# Altium footprint library LAUNCHXL-F28379D-REV2.0.PcbLib: 47 footprints (part 2 of 3)
Each footprint in its own frame and in the unit in brackets; x right, y up, seen from the top. Pads: shape width x height; smd on the part's side, far side on the other; paste and mask are expansions set on the pad; w line width, h text height; cw(c..) or ccw(c..) is an arc to the next point about the centre after c.
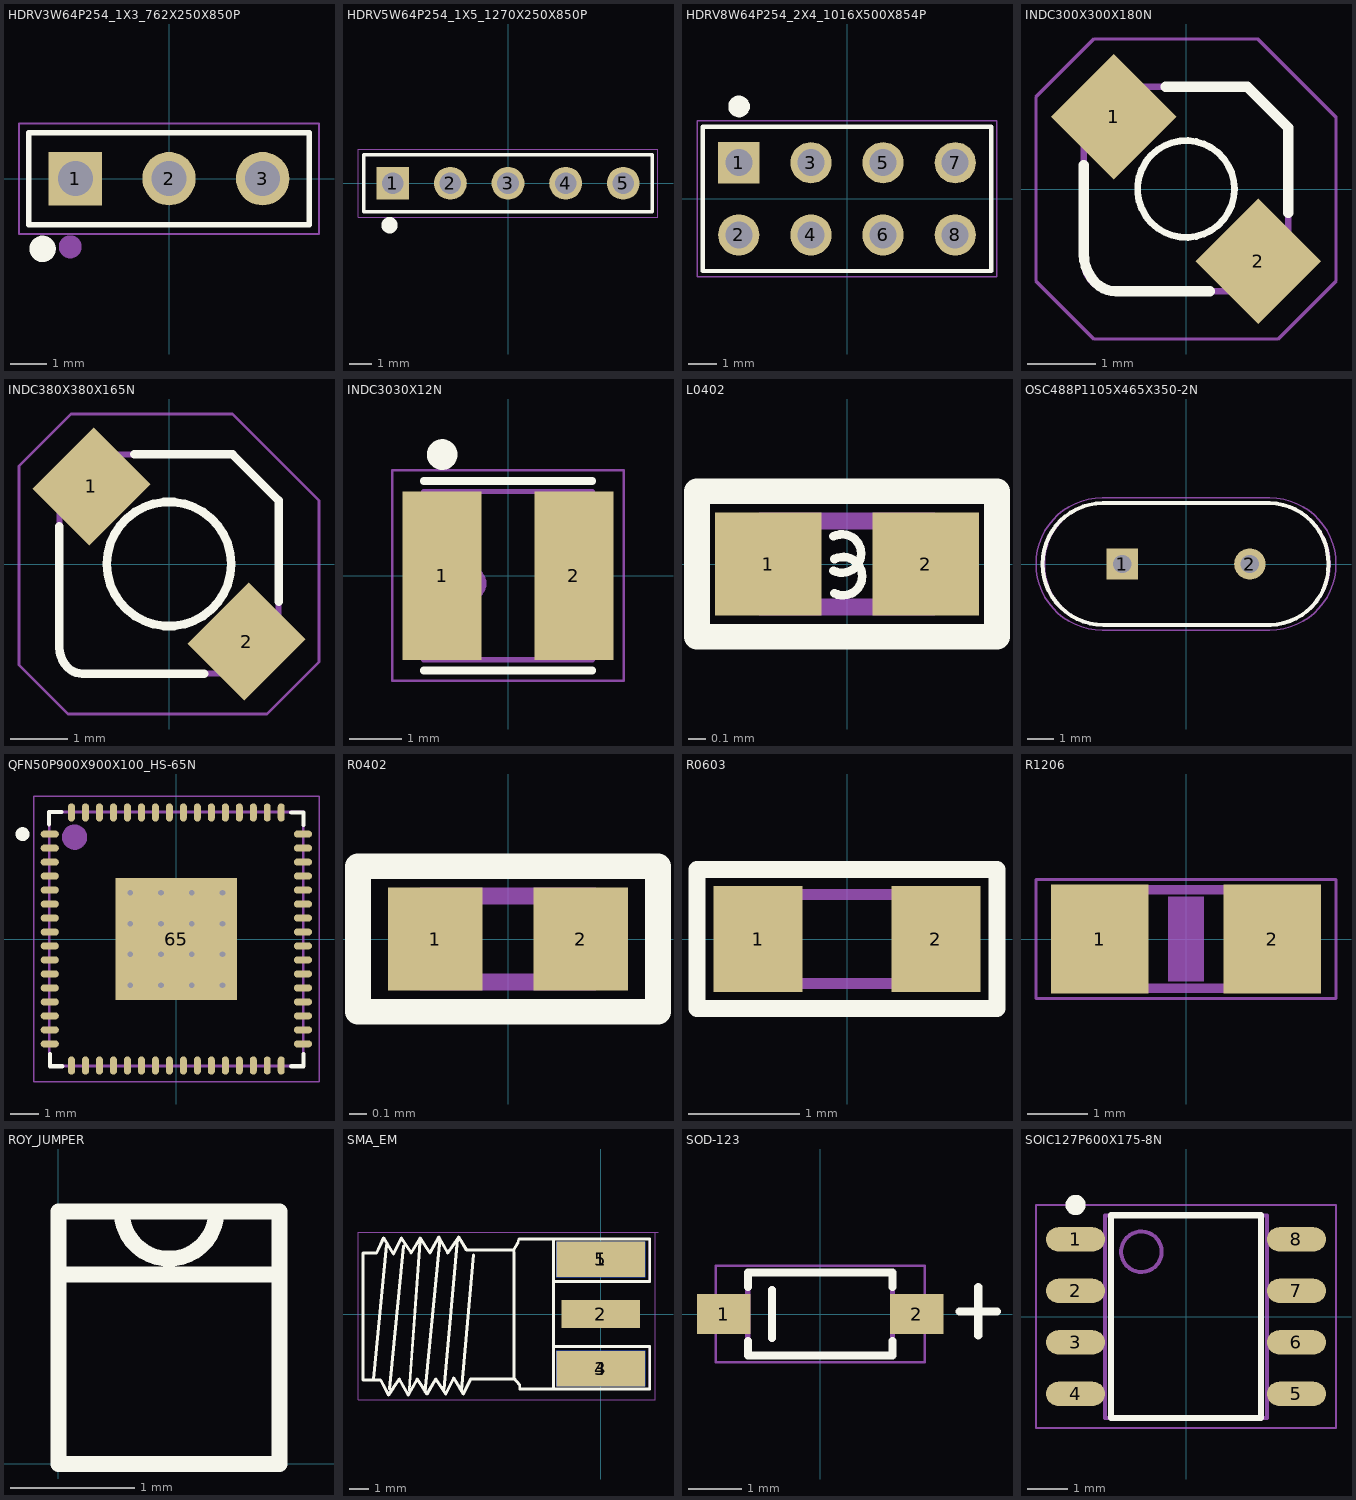
[diagram p1: the footprints below, top view; thin cyan lines are the x and y axes]

## HDRV3W64P254_1X3_762X250X850P [mm]
pads (3):
  rect 1.45x1.45 hole 0.95 mask+0.1: 1(-2.54,0)
  round 1.45 hole 0.95 mask+0.1: 2(0,0) 3(2.54,0)
Top Overlay:
  circle w0.4: c-3.429,-1.905 r0.158
  lines w0.15: 3.8,-1.25 -3.81,-1.25 -3.81,1.25 -3.76,1.25 3.8,1.25 ; 3.81,-1.25 3.81,1.25
Mechanical 14:
  circle w0.4: c-2.68,-1.85 r0.112
  lines w0.1: -3.81,-1.25 3.81,-1.25 3.81,1.25 -3.81,1.25 -3.81,-1.25
Mechanical 16:
  lines w0.05: -4.07,-1.5 4.07,-1.5 4.07,1.5 -3.27,1.5 -4.07,1.5 -4.07,-1.5

## HDRV5W64P254_1X5_1270X250X850P [mm]
pads (5):
  rect 1.45x1.45 hole 0.95 mask+0.1: 1(-5.08,0)
  round 1.45 hole 0.95 mask+0.1: 2(-2.54,0) 3(0,0) 4(2.54,0) 5(5.08,0)
Top Overlay:
  circle w0.4: c-5.22,-1.85 r0.158
  lines w0.15: -6.35,-1.25 -6.35,1.25 -6.3,1.25 6.35,1.25 6.35,-1.25 -6.35,-1.25
Mechanical 14:
  circle w0.4: c-5.22,-1.85 r0.112
  lines w0.1: 6.35,1 6.35,1.25 ; 6.35,1.25 -6.35,1.25 -6.35,-1.25 -1.27,-1.25 6.35,-1.25 6.35,1.25
Mechanical 16:
  lines w0.05: -6.61,-1.5 -6.61,1.5 -5.81,1.5 -1.01,1.5 6.61,1.5 6.61,-1.5 -1.01,-1.5 -6.61,-1.5

## HDRV8W64P254_2X4_1016X500X854P [mm]
pads (8):
  rect 1.45x1.45 hole 0.95 mask+0.1: 1(-3.81,1.27)
  round 1.45 hole 0.95 mask+0.1: 2(-3.81,-1.27) 3(-1.27,1.27) 4(-1.27,-1.27) 5(1.27,1.27) 6(1.27,-1.27) 7(3.81,1.27) 8(3.81,-1.27)
Top Overlay:
  circle w0.4: c-3.8,3.25 r0.18
  lines w0.15: -5.08,-2.54 -5.08,2.54 5.08,2.54 5.08,-2.54 -5.08,-2.54
Mechanical 14:
  circle w0.4: c-3.8,3.25 r0.158
  lines w0.1: -5.08,-2.54 -5.08,2.54 5.08,2.54 5.08,-2.54 -5.08,-2.54
Mechanical 16:
  lines w0.05: -5.28,-2.74 -5.28,2.74 5.28,2.74 5.28,-2.74 -5.28,-2.74

## INDC300X300X180N [mm]
pads (2):
  rect 1.3x1.3 smd rot 135 paste+0 mask+0.1: 1(-1.061,1.061) 2(1.061,-1.061)
Top Overlay:
  circle w0.1: c0,0 r0.711
  lines w0.15: -1.5,0.35 -1.5,-0.95 ccw(c-0.896,-0.95) -1.323,-1.377 ccw(c-1.026,-1.079) -1.026,-1.5 0.35,-1.5 ; -0.3,1.5 0.9,1.5 1.5,0.9 1.5,-0.35
Mechanical 14:
  lines w0.1: -1.5,-1.05 ccw(c-1.05,-1.05) -1.05,-1.5 1.2,-1.5 1.5,-1.2 1.5,0.9 0.9,1.5 -1.25,1.5 -1.5,1.25 -1.5,-1.05
Mechanical 16:
  lines w0.05: -2.2,-1.35 -1.35,-2.2 1.35,-2.2 2.2,-1.35 2.2,1.05 1.05,2.2 -1.05,2.2 -1.35,2.2 -2.2,1.35 -2.2,-1.35

## INDC380X380X165N [mm]
pads (2):
  rect 1.4x1.5 smd rot 135 paste+0 mask+0.1: 1(-1.344,1.344) 2(1.344,-1.344)
Top Overlay:
  circle w0.15: c0,0 r1.077
  lines w0.15: -1.9,0.65 -1.9,-1.446 ccw(c-1.409,-1.446) -1.756,-1.794 ccw(c-1.5,-1.538) -1.5,-1.9 0.61,-1.9 ; -0.6,1.9 1.1,1.9 1.9,1.1 1.9,-0.65
Mechanical 14:
  lines w0.1: -1.9,-1.5 ccw(c-1.5,-1.5) -1.5,-1.9 1.25,-1.9 1.5,-1.9 1.9,-1.5 1.9,1.1 1.1,1.9 -1.45,1.9 -1.9,1.45 -1.9,-1.5
Mechanical 16:
  lines w0.05: -2.6,-1.75 -2.6,1.7 -1.7,2.6 1.1,2.6 2.6,1.1 2.6,-1.7 1.7,-2.6 -1.75,-2.6 -2.6,-1.75

## INDC3030X12N [mm]
pads (2):
  rect 1.5x3.2 smd mask+0.1: 1(-1.25,0) 2(1.25,0)
Top Overlay:
  circle w0.3: c-1.25,2.3 r0.141
  lines w0.15: -1.6,-1.8 1.6,-1.8 ; -1.6,1.8 1.6,1.8
Mechanical 14:
  circle w0.1: c-0.75,-0.15 r0.292
  lines w0.1: -1.6,-1.6 -1.6,1.6 1.6,1.6 1.6,-1.6 -1.6,-1.6
Mechanical 16:
  lines w0.05: -2.2,-2 2.2,-2 2.2,2 -2.2,2 -2.2,-2
3D body: height 1.2, standoff 0, extent -0.7,-1.6 0.7,1.6
3D body: height 1.2, standoff 0, extent -1.6,-1.6 -0.7,1.6
3D body: height 1.2, standoff 0, extent 0.7,-1.6 1.6,1.6

## L0402 [mm]
pads (2):
  rect 0.62x0.6 smd mask+0.1: 1(-0.46,0) 2(0.46,0)
Top Overlay:
  lines w0.05: -0.079,-0.039 ccw(c-0.029,0.061) -0.079,0.161 ; -0.073,-0.171 ccw(c-0.023,-0.071) -0.073,0.029
  lines w0.15: 0.875,0.42 0.875,-0.425 0.23,-0.425 -0.23,-0.425 -0.875,-0.425 -0.875,0.425 -0.78,0.425 -0.23,0.425 0.23,0.425 0.875,0.425
Mechanical 14:
  lines w0.1: -0.5,-0.25 -0.5,0.25 0.5,0.25 0.5,-0.25 -0.5,-0.25
Mechanical 16:
  lines w0.05: -0.85,-0.425 -0.85,0.425 0.85,0.425 0.85,-0.425 -0.85,-0.425

## OSC488P1105X465X350-2N [mm]
pads (2):
  rect 1.2x1.2 hole 0.7 mask+0.1: 1(-2.44,0)
  round 1.2 hole 0.7 mask+0.1: 2(2.44,0)
Top Overlay:
  lines w0.15: -5.48,0 cw(c-3.165,0.01) -3.176,2.325 3.2,2.325 cw(c3.158,0.042) 5.44,0 cw(c3.17,-0.055) 3.226,-2.325 -3.161,-2.325 cw(c-3.158,-0.003) -5.48,0
Mechanical 14:
  lines w0.1: -5.42,0 cw(c-3.148,0.052) -3.2,2.325 3.2,2.325 cw(c3.177,0.023) 5.48,0 cw(c3.177,-0.023) 3.2,-2.325 -3.2,-2.325 cw(c-3.148,-0.052) -5.42,0
Mechanical 16:
  lines w0.05: -5.73,0 cw(c-3.203,-0.003) -3.2,2.525 3.2,2.525 cw(c3.203,-0.002) 5.73,0 cw(c3.203,0.003) 3.2,-2.525 -3.2,-2.525 cw(c-3.203,0.003) -5.73,0
3D body "User Library-HC49S-1.STEP": height 3.6, standoff -3, extent -5.49,-2.245 5.49,2.246

## QFN50P900X900X100_HS-65N [mm]
pads (65):
  oval 0.65x0.25 smd mask+0.1: 1(-4.525,3.75) 2(-4.525,3.25) 3(-4.525,2.75) 4(-4.525,2.25) 5(-4.525,1.75) 6(-4.525,1.25) 7(-4.525,0.75) 8(-4.525,0.25) 9(-4.525,-0.25) 10(-4.525,-0.75) 11(-4.525,-1.25) 12(-4.525,-1.75) 13(-4.525,-2.25) 14(-4.525,-2.75) 15(-4.525,-3.25) 16(-4.525,-3.75) 33(4.525,-3.75) 34(4.525,-3.25) 35(4.525,-2.75) 36(4.525,-2.25) 37(4.525,-1.75) 38(4.525,-1.25) 39(4.525,-0.75) 40(4.525,-0.25) 41(4.525,0.25) 42(4.525,0.75) 43(4.525,1.25) 44(4.525,1.75) 45(4.525,2.25) 46(4.525,2.75) 47(4.525,3.25) 48(4.525,3.75)
  oval 0.25x0.65 smd mask+0.1: 17(-3.75,-4.525) 18(-3.25,-4.525) 19(-2.75,-4.525) 20(-2.25,-4.525) 21(-1.75,-4.525) 22(-1.25,-4.525) 23(-0.75,-4.525) 24(-0.25,-4.525) 25(0.25,-4.525) 26(0.75,-4.525) 27(1.25,-4.525) 28(1.75,-4.525) 29(2.25,-4.525) 30(2.75,-4.525) 31(3.25,-4.525) 32(3.75,-4.525) 49(3.75,4.525) 50(3.25,4.525) 51(2.75,4.525) 52(2.25,4.525) 53(1.75,4.525) 54(1.25,4.525) 55(0.75,4.525) 56(0.25,4.525) 57(-0.25,4.525) 58(-0.75,4.525) 59(-1.25,4.525) 60(-1.75,4.525) 61(-2.25,4.525) 62(-2.75,4.525) 63(-3.25,4.525) 64(-3.75,4.525)
  rect 4.35x4.35 smd mask+0.1: 65(0,0)
via -1.65,1.65 diameter 0.508 hole 0.203
via -0.55,1.65 diameter 0.508 hole 0.203
via 0.55,1.65 diameter 0.508 hole 0.203
via 1.65,1.65 diameter 0.508 hole 0.203
via -1.65,0.55 diameter 0.508 hole 0.203
via -0.55,0.55 diameter 0.508 hole 0.203
via 0.55,0.55 diameter 0.508 hole 0.203
via 1.65,0.55 diameter 0.508 hole 0.203
via -1.65,-0.55 diameter 0.508 hole 0.203
via -0.55,-0.55 diameter 0.508 hole 0.203
via 0.55,-0.55 diameter 0.508 hole 0.203
via 1.65,-0.55 diameter 0.508 hole 0.203
via -1.65,-1.65 diameter 0.508 hole 0.203
via -0.55,-1.65 diameter 0.508 hole 0.203
via 0.55,-1.65 diameter 0.508 hole 0.203
via 1.65,-1.65 diameter 0.508 hole 0.203
Top Overlay:
  circle w0.25: c-5.5,3.75 r0.125
  lines w0.15: -4.55,4.1 -4.55,4.54 -4.11,4.54 ; -4.52,-4.11 -4.52,-4.55 -4.08,-4.55 ; 4.11,-4.55 4.55,-4.55 4.55,-4.11 ; 4.11,4.52 4.55,4.52 4.55,4.08
Mechanical 14:
  circle w0.5: c-3.64,3.64 r0.2
  lines w0.1: -4.54,-4.54 -4.54,4.54 4.54,4.54 4.54,-4.54 -4.54,-4.54
Mechanical 16:
  lines w0.05: -5.1,-5.1 -5.1,5.1 5.1,5.1 5.1,-5.1 -5.1,-5.1
  lines w0.1: -0.5,0 0.5,0 ; 0,-0.5 0,0.5
3D body: height 1, standoff 0, extent -4.23,-5.05 4.85,4.03

## R0402 [mm]
pads (2):
  rect 0.55x0.6 smd mask+0.1: 1(-0.425,0) 2(0.425,0)
Top Overlay:
  lines w0.15: -0.875,-0.425 0.875,-0.425 0.875,0.425 -0.875,0.425 -0.875,-0.425
Mechanical 14:
  lines w0.1: -0.5,-0.25 0.5,-0.25 ; -0.5,-0.25 -0.5,0.25 0.5,0.25 0.5,-0.25 ; -0.5,-0.25 0.5,-0.25
Mechanical 16:
  lines w0.05: -0.875,-0.425 0.875,-0.425 0.875,0.425 -0.875,0.425 -0.875,-0.425

## R0603 [mm]
pads (2):
  rect 0.8x0.95 smd mask+0.1: 1(-0.8,0) 2(0.8,0)
Top Overlay:
  lines w0.15: -1.35,-0.625 1.35,-0.625 1.35,0.625 -1.35,0.625 -1.35,-0.625
Mechanical 14:
  lines w0.1: -0.8,-0.4 -0.8,0.4 0.8,0.4 0.8,-0.4 -0.8,-0.4
Mechanical 16:
  lines w0.05: -1.35,-0.625 -1.35,0.625 1.35,0.625 1.35,-0.625 -1.35,-0.625
3D body "R0603.STEP": height 0.45, standoff 0, extent -0.8,-0.4 0.8,0.4

## R1206 [mm]
pads (2):
  rect 1.6x1.803 smd: 1(-1.422,0) 2(1.422,0)
Mechanical 6:
  rectangle: -0.3,-0.7 0.3,0.7
Mechanical 16:
  rectangle: 0.953,-0.876 1.689,0.876
  rectangle: -1.689,-0.876 -0.953,0.876
  lines w0.051: -2.473,-0.983 -2.473,0.983 2.473,0.983 2.473,-0.983 -2.473,-0.983
  lines w0.152: -0.965,-0.813 0.953,-0.813 ; -0.965,0.813 0.953,0.813

## ROY_JUMPER [mm]
Top Overlay:
  lines w0.127: 0,1.524 1.778,1.524 ; 0,1.524 0,2.032 0.508,2.032 ; 0,1.524 0,0 1.778,0 1.778,1.524 ; 0.508,2.032 ccw(c0.889,2.032) 1.27,2.032 ; 0.508,2.032 1.27,2.032 ; 1.27,2.032 1.778,2.032 1.778,1.524

## SMA_EM [mm]
pads (5):
  rect 4.5x1.8 smd far side mask+0.1: 1(0,2.77) 3(0,-2.77)
  rect 4x1.4 smd mask+0.1: 2(0,0)
  rect 4.5x1.8 smd mask+0.1: 4(0,-2.77) 5(0,2.77)
Top Overlay:
  lines w0.15: -11.504,-3.3 -10.854,3.5 ; -10.704,-3.8 -10.004,3.45 ; -9.704,-3.85 -9.154,3.65 ; -8.904,-3.95 -8.154,3.8 ; -7.954,-3.8 -7.254,3.8 ; -7.054,-3.85 -6.454,3 ; -4.404,3.15 -4.404,-3.25 ; -2.354,-1.65 2.481,-1.65 2.481,-3.8 -2.404,-3.8 ; -2.354,3.8 2.481,3.8 2.481,1.65 -2.304,1.65 ; -4.404,-3.25 -4.354,-3.3 -6.604,-3.3 -6.954,-4.05 -7.454,-3.25 -7.854,-4.05 -8.354,-3.3 -8.804,-4.05 -9.304,-3.3 -9.754,-4.1 -10.204,-3.3 -10.754,-4.1 -11.154,-3.35 -12.054,-3.35 -12.054,3.1 -11.354,3.1 -11.004,3.85 -10.504,3.05 -10.104,3.85 -9.604,3.1 -9.154,3.85 -8.654,3.1 -8.204,3.9 -7.754,3.1 -7.204,3.9 -6.804,3.25 -4.404,3.25 -4.204,3.6 -4.154,3.8 -2.404,3.8 -2.404,-3.8 ; -4.404,-3.25 -4.104,-3.6 -4.104,-3.8 -2.404,-3.8
Mechanical 14:
  lines w0.1: -11.504,-3.3 -10.854,3.5 ; -10.704,-3.8 -10.004,3.45 ; -9.704,-3.85 -9.154,3.65 ; -8.904,-3.95 -8.154,3.8 ; -7.954,-3.8 -7.254,3.8 ; -7.054,-3.85 -6.454,3 ; -4.404,3.15 -4.404,-3.25 ; -2.354,-1.65 2.481,-1.65 2.481,-3.8 -2.404,-3.8 ; -2.354,3.8 2.481,3.8 2.481,1.65 -2.304,1.65 ; -4.404,-3.25 -4.104,-3.6 -4.104,-3.8 -2.404,-3.8 ; -4.404,-3.25 -4.354,-3.3 -6.604,-3.3 -6.954,-4.05 -7.454,-3.25 -7.854,-4.05 -8.354,-3.3 -8.804,-4.05 -9.304,-3.3 -9.754,-4.1 -10.204,-3.3 -10.754,-4.1 -11.154,-3.35 -12.054,-3.35 -12.054,3.1 -11.354,3.1 -11.004,3.85 -10.504,3.05 -10.104,3.85 -9.604,3.1 -9.154,3.85 -8.654,3.1 -8.204,3.9 -7.754,3.1 -7.204,3.9 -6.804,3.25 -4.404,3.25 -4.204,3.6 -4.154,3.8 -2.404,3.8 -2.404,-3.8
Mechanical 16:
  lines w0.05: -12.3,-4.35 -12.3,4.15 -11.004,4.15 2.696,4.15 2.9,4.15 2.75,4.15 2.75,-4.35 -12.3,-4.35

## SOD-123 [mm]
pads (2):
  rect 1x0.75 smd paste+0 mask+0.1: 1(-1.8,0) 2(1.8,0)
Top Overlay:
  lines w0.15: -1.35,-0.5 -1.35,-0.775 1.35,-0.775 1.35,-0.5 ; -1.35,0.5 -1.35,0.775 1.35,0.775 1.35,0.5 ; -0.9,-0.45 -0.9,0.45 ; 2.6,0.05 3.3,0.05 ; 2.95,-0.4 2.95,0.5
Mechanical 14:
  lines w0.1: -1.35,-0.775 -1.35,0.775 1.35,0.775 1.35,-0.775 -1.35,-0.775
  lines w0.15: -0.9,-0.45 -0.9,0.45
Mechanical 16:
  lines w0.05: 1.95,0.7 1.95,0.9 ; 1.95,0.9 1.95,-0.9 -1.95,-0.9 -1.95,0.9 1.95,0.9
3D body "User Library-SOD-123.STEP": height 1.25, standoff 0, extent -1.849,-0.8 1.849,0.8

## SOIC127P600X175-8N [mm]
pads (8):
  oval 1.45x0.6 smd mask+0.1: 1(-2.725,1.905) 2(-2.725,0.635) 3(-2.725,-0.635) 4(-2.725,-1.905) 5(2.725,-1.905) 6(2.725,-0.635) 7(2.725,0.635) 8(2.725,1.905)
Top Overlay:
  circle w0.25: c-2.725,2.755 r0.125
  lines w0.15: -1.85,-2.5 -1.85,2.5 1.85,2.5 1.85,-2.5 -1.85,-2.5
Mechanical 14:
  circle w0.1: c-1.1,1.6 r0.5
  lines w0.1: -2,-2.5 2,-2.5 2,2.5 -2,2.5 -2,-2.5
Mechanical 16:
  lines w0.05: -3.7,-2.75 3.7,-2.75 3.7,2.75 -3.7,2.75 -3.7,-2.75
3D body "SOIC127P600X175-8N.step": height 1.75, standoff 0, extent -3,-2.5 3,2.5